# Altium footprint library PcbLib.PcbLib: 22 footprints (part 1 of 2)
Each footprint in its own frame and in the unit in brackets; x right, y up, seen from the top. Pads: shape width x height; smd on the part's side, far side on the other; paste and mask are expansions set on the pad; w line width, h text height; cw(c..) or ccw(c..) is an arc to the next point about the centre after c.
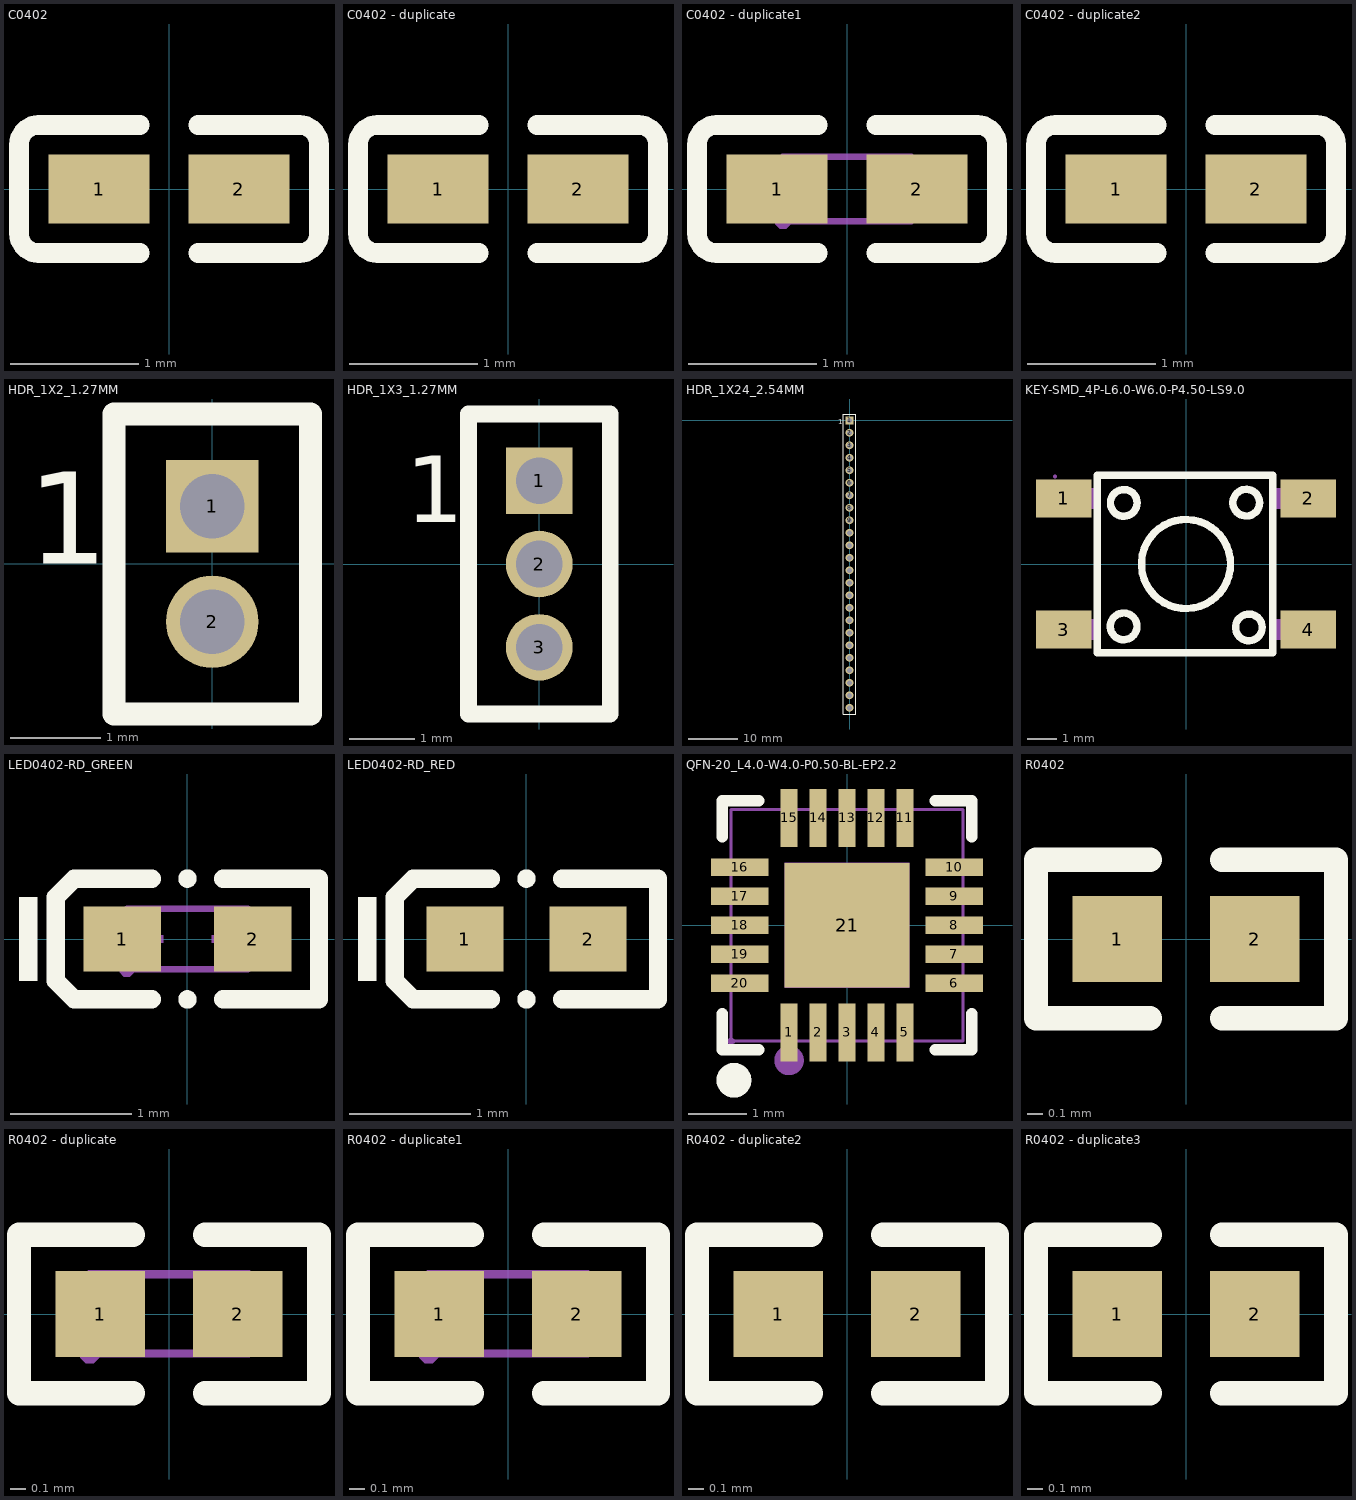
[diagram p0: the footprints below, top view; thin cyan lines are the x and y axes]

## C0402 [mm]
pads (2):
  rect 0.79x0.54 smd paste-100 mask+0.051: 1(-0.545,0) 2(0.545,0)
Top Overlay:
  lines w0.152: -0.226,-0.499 -1.016,-0.499 cw(c-1.016,-0.346) -1.169,-0.346 -1.169,0.346 cw(c-1.016,0.346) -1.016,0.499 -0.226,0.499 ; 0.226,-0.499 1.016,-0.499 ccw(c1.016,-0.346) 1.169,-0.346 1.169,0.346 ccw(c1.016,0.346) 1.016,0.499 0.226,0.499
Top Paste:
  region: 0.78,0.225 0.78,-0.225 0.73,-0.275 0.25,-0.275 0.18,-0.225 0.18,0.225 0.25,0.275 0.73,0.275
  region: -0.18,0.225 -0.18,-0.225 -0.25,-0.275 -0.73,-0.275 -0.78,-0.225 -0.78,0.225 -0.73,0.275 -0.25,0.275

## C0402 - duplicate [mm]
pads (2):
  rect 0.79x0.54 smd paste-100 mask+0.051: 1(-0.545,0) 2(0.545,0)
Top Overlay:
  lines w0.152: -0.226,-0.499 -1.016,-0.499 cw(c-1.016,-0.346) -1.169,-0.346 -1.169,0.346 cw(c-1.016,0.346) -1.016,0.499 -0.226,0.499 ; 0.226,-0.499 1.016,-0.499 ccw(c1.016,-0.346) 1.169,-0.346 1.169,0.346 ccw(c1.016,0.346) 1.016,0.499 0.226,0.499
Top Paste:
  region: 0.78,0.225 0.78,-0.225 0.73,-0.275 0.25,-0.275 0.18,-0.225 0.18,0.225 0.25,0.275 0.73,0.275
  region: -0.18,0.225 -0.18,-0.225 -0.25,-0.275 -0.73,-0.275 -0.78,-0.225 -0.78,0.225 -0.73,0.275 -0.25,0.275

## C0402 - duplicate1 [mm]
pads (2):
  rect 0.79x0.54 smd paste-100 mask+0.051: 1(-0.545,0) 2(0.545,0)
Top Overlay:
  lines w0.152: -0.226,-0.499 -1.016,-0.499 cw(c-1.016,-0.346) -1.169,-0.346 -1.169,0.346 cw(c-1.016,0.346) -1.016,0.499 -0.226,0.499 ; 0.226,-0.499 1.016,-0.499 ccw(c1.016,-0.346) 1.169,-0.346 1.169,0.346 ccw(c1.016,0.346) 1.016,0.499 0.226,0.499
Top Paste:
  region: 0.78,0.225 0.78,-0.225 0.73,-0.275 0.25,-0.275 0.18,-0.225 0.18,0.225 0.25,0.275 0.73,0.275
  region: -0.18,0.225 -0.18,-0.225 -0.25,-0.275 -0.73,-0.275 -0.78,-0.225 -0.78,0.225 -0.73,0.275 -0.25,0.275
Mechanical 15:
  region: 0.5,-0.25 0.5,0.25 0.25,0.25 0.25,-0.25
  region: -0.5,-0.25 -0.5,0.25 -0.25,0.25 -0.25,-0.25
  region: -0.44,-0.25 -0.44,-0.275 -0.475,-0.31 -0.525,-0.31 -0.56,-0.275 -0.56,-0.25 -0.56,-0.225 -0.525,-0.19 -0.475,-0.19 -0.44,-0.225
  lines w0.051: -0.5,-0.25 0.5,-0.25 0.5,0.25 -0.5,0.25 -0.5,-0.25

## C0402 - duplicate2 [mm]
pads (2):
  rect 0.79x0.54 smd paste-100 mask+0.051: 1(-0.545,0) 2(0.545,0)
Top Overlay:
  lines w0.152: -0.226,-0.499 -1.016,-0.499 cw(c-1.016,-0.346) -1.169,-0.346 -1.169,0.346 cw(c-1.016,0.346) -1.016,0.499 -0.226,0.499 ; 0.226,-0.499 1.016,-0.499 ccw(c1.016,-0.346) 1.169,-0.346 1.169,0.346 ccw(c1.016,0.346) 1.016,0.499 0.226,0.499
Top Paste:
  region: 0.78,0.225 0.78,-0.225 0.73,-0.275 0.25,-0.275 0.18,-0.225 0.18,0.225 0.25,0.275 0.73,0.275
  region: -0.18,0.225 -0.18,-0.225 -0.25,-0.275 -0.73,-0.275 -0.78,-0.225 -0.78,0.225 -0.73,0.275 -0.25,0.275

## HDR_1X2_1.27MM [mil]
pads (2):
  rect 40x40 hole 28: 1(0,25)
  round 40 hole 28: 2(0,-25)
Top Overlay:
  lines w10: -42.5,-65 -42.5,65 42.5,65 42.5,-65 -42.5,-65
  text "1" at -80,0 h40
3D body "FTS-102-01-F-S.stp": height 154.5, standoff -89.5, extent -42.5,-50 42.5,50

## HDR_1X3_1.27MM [mil]
pads (3):
  rect 40x40 hole 28: 1(0,50)
  round 40 hole 28: 2(0,0) 3(0,-50)
Top Overlay:
  lines w10: -42.5,-90 42.5,-90 42.5,90 -42.5,90 -42.5,-90
  text "1" at -80,25 h40
3D body "FTS-103-01-F-S.stp": height 154.5, standoff -89.5, extent -42.5,-75 42.5,75

## HDR_1X24_2.54MM [mil]
pads (24):
  rect 64x64 hole 40: 1(0,0)
  round 64 hole 40: 2(0,-100) 3(0,-200) 4(0,-300) 5(0,-400) 6(0,-500) 7(0,-600) 8(0,-700) 9(0,-800) 10(0,-900) 11(0,-1000) 12(0,-1100) 13(0,-1200) 14(0,-1300) 15(0,-1400) 16(0,-1500) 17(0,-1600) 18(0,-1700) 19(0,-1800) 20(0,-1900) 21(0,-2000) 22(0,-2100) 23(0,-2200) 24(0,-2300)
Top Overlay:
  lines w10: -50,-2350 50,-2350 50,50 -50,50 -50,-2350
  text "1" at -90,-30 h40
3D body "022284245.stp": height 385.5, standoff -119.5, extent -49,-2350 49,50

## KEY-SMD_4P-L6.0-W6.0-P4.50-LS9.0 [mm]
pads (4):
  rect 1.9x1.3 smd: 1(-4.2,2.25) 2(4.2,2.25) 3(-4.2,-2.25) 4(4.2,-2.25)
Top Overlay:
  circle w0.254: c0,0 r1.529
  circle w0.254: c2.068,2.105 r0.458
  circle w0.254: c2.159,-2.177 r0.458
  circle w0.254: c-2.141,-2.141 r0.458
  circle w0.254: c-2.136,2.098 r0.458
  lines w0.254: -3.051,-3.051 -3.051,3.051 2.977,3.051 2.977,-3.051 -3.051,-3.051
Mechanical 15:
  region: -4.44,3 -4.44,2.975 -4.475,2.94 -4.525,2.94 -4.56,2.975 -4.56,3 -4.56,3.025 -4.525,3.06 -4.475,3.06 -4.44,3.025
  region: 2.99,-2.6 2.99,-1.9 3.71,-1.9 3.71,-2.6
  region: 3.7,-2.6 3.7,-1.9 4.5,-1.9 4.5,-2.6
  region: -3.71,-2.6 -3.71,-1.9 -2.99,-1.9 -2.99,-2.6
  region: -4.5,-2.6 -4.5,-1.9 -3.7,-1.9 -3.7,-2.6
  region: 2.99,1.9 2.99,2.6 3.71,2.6 3.71,1.9
  region: 3.7,1.9 3.7,2.6 4.5,2.6 4.5,1.9
  region: -3.71,1.9 -3.71,2.6 -2.99,2.6 -2.99,1.9
  region: -4.5,1.9 -4.5,2.6 -3.7,2.6 -3.7,1.9
  lines w0.051: -3,-3 3,-3 3,3 -3,3 -3,-3
3D body "tactile switch.STEP": height 4.81, standoff -0.19, extent -4.5,-3 4.5,3

## LED0402-RD_GREEN [mm]
pads (2):
  rect 0.636x0.54 smd paste-100 mask+0.051: 1(-0.538,0) 2(0.538,0)
Top Overlay:
  circle w0.076: c0,0.499 r0.038
  circle w0.076: c0,-0.499 r0.038
  region: -1.237,-0.346 -1.237,0.346 -1.39,0.346 -1.39,-0.346
  lines w0.152: -0.296,-0.499 -0.933,-0.499 -1.085,-0.346 -1.085,0.346 -0.933,0.499 -0.296,0.499 ; 0.296,-0.499 1.085,-0.499 1.085,0.499 0.296,0.499
Top Paste:
  region: -0.198,-0.23 -0.198,0.23 -0.238,0.27 -0.816,0.27 -0.856,0.23 -0.856,-0.23 -0.816,-0.27 -0.238,-0.27
  region: 0.198,-0.23 0.198,0.23 0.238,0.27 0.816,0.27 0.856,0.23 0.856,-0.23 0.816,-0.27 0.238,-0.27
Mechanical 6:
  region: 0.35,-0.2 0.35,0.2 0.29,0.2 0.29,-0.2
  region: 0.44,-0.03 0.44,0.03 0.2,0.03 0.2,-0.03
  region: -0.44,-0.03 -0.44,0.03 -0.2,0.03 -0.2,-0.03
Mechanical 15:
  region: 0.5,-0.25 0.5,0.25 0.3,0.25 0.3,-0.25
  region: -0.5,-0.25 -0.5,0.25 -0.3,0.25 -0.3,-0.25
  region: -0.44,-0.25 -0.44,-0.275 -0.475,-0.31 -0.525,-0.31 -0.56,-0.275 -0.56,-0.25 -0.56,-0.225 -0.525,-0.19 -0.475,-0.19 -0.44,-0.225
  lines w0.051: -0.5,-0.25 0.5,-0.25 0.5,0.25 -0.5,0.25 -0.5,-0.25

## LED0402-RD_RED [mm]
pads (2):
  rect 0.636x0.54 smd paste-100 mask+0.051: 1(-0.508,0) 2(0.508,0)
Top Overlay:
  circle w0.076: c0,0.499 r0.038
  circle w0.076: c0,-0.499 r0.038
  region: -1.237,-0.346 -1.237,0.346 -1.39,0.346 -1.39,-0.346
  lines w0.152: -0.296,-0.499 -0.933,-0.499 -1.085,-0.346 -1.085,0.346 -0.933,0.499 -0.296,0.499 ; 0.296,-0.499 1.085,-0.499 1.085,0.499 0.296,0.499
Top Paste:
  region: -0.168,-0.23 -0.168,0.23 -0.208,0.27 -0.786,0.27 -0.826,0.23 -0.826,-0.23 -0.786,-0.27 -0.208,-0.27
  region: 0.168,-0.23 0.168,0.23 0.208,0.27 0.786,0.27 0.826,0.23 0.826,-0.23 0.786,-0.27 0.208,-0.27
Mechanical 15:
  region: 0.35,-0.2 0.35,0.2 0.29,0.2 0.29,-0.2
  region: 0.44,-0.03 0.44,0.03 0.2,0.03 0.2,-0.03
  region: -0.44,-0.03 -0.44,0.03 -0.2,0.03 -0.2,-0.03

## QFN-20_L4.0-W4.0-P0.50-BL-EP2.2 [mm]
pads (21):
  rect 0.3x1 smd paste-100 mask+0.051: 1(-1,-1.85) 2(-0.5,-1.85) 3(0,-1.85) 4(0.5,-1.85) 5(1,-1.85) 11(1,1.85) 12(0.5,1.85) 13(0,1.85) 14(-0.5,1.85) 15(-1,1.85)
  rect 1x0.3 smd paste-100 mask+0.051: 6(1.85,-1) 7(1.85,-0.5) 8(1.85,0) 9(1.85,0.5) 10(1.85,1) 16(-1.85,1) 17(-1.85,0.5) 18(-1.85,0) 19(-1.85,-0.5) 20(-1.85,-1)
  rect 2.15x2.15 smd paste-100 mask+0.051: 21(0,0)
Top Overlay:
  lines w0.2: -2.15,-1.525 -2.15,-2.15 -1.525,-2.15 ; -2.15,1.525 -2.15,2.15 -1.525,2.15 ; 1.525,-2.15 2.15,-2.15 2.15,-1.525 ; 1.525,2.15 2.15,2.15 2.15,1.525
  lines w0.3: -1.951,-2.525 ccw(c-1.949,-2.675) -1.949,-2.825 ccw(c-1.949,-2.675) -1.948,-2.525
Top Paste:
  region: -0.35,-2.35 -0.35,-1.35 -0.65,-1.35 -0.65,-2.35
  region: -0.15,-1.35 -0.15,-2.35 0.15,-2.35 0.15,-1.35
  region: 0.35,-1.35 0.35,-2.35 0.65,-2.35 0.65,-1.35
  region: 0.85,-1.35 0.85,-2.35 1.15,-2.35 1.15,-1.35
  region: -0.85,-2.35 -0.85,-1.35 -1.15,-1.35 -1.15,-2.35
  region: 1.35,-0.85 1.35,-1.15 2.35,-1.15 2.35,-0.85
  region: -2.35,-0.85 -2.35,-1.15 -1.35,-1.15 -1.35,-0.85
  region: 1.35,-0.35 1.35,-0.65 2.35,-0.65 2.35,-0.35
  region: -2.35,-0.35 -2.35,-0.65 -1.35,-0.65 -1.35,-0.35
  region: 1.35,0.15 1.35,-0.15 2.35,-0.15 2.35,0.15
  region: -2.35,0.15 -2.35,-0.15 -1.35,-0.15 -1.35,0.15
  region: 1.35,0.65 1.35,0.35 2.35,0.35 2.35,0.65
  region: -2.35,0.65 -2.35,0.35 -1.35,0.35 -1.35,0.65
  region: 0.88,-0.88 0.88,0.88 -0.88,0.88 -0.88,-0.88
  region: 1.35,1.15 1.35,0.85 2.35,0.85 2.35,1.15
  region: -1.35,0.85 -1.35,1.15 -2.35,1.15 -2.35,0.85
  region: 0.15,1.35 0.15,2.35 -0.15,2.35 -0.15,1.35
  region: -0.65,2.35 -0.65,1.35 -0.35,1.35 -0.35,2.35
  region: 0.65,1.35 0.65,2.35 0.35,2.35 0.35,1.35
  region: -1.15,2.35 -1.15,1.35 -0.85,1.35 -0.85,2.35
  region: 0.85,2.35 0.85,1.35 1.15,1.35 1.15,2.35
Mechanical 6:
  circle w0.254: c-1,-2.332 r0.127
Mechanical 15:
  region: -0.885,-2 -1.115,-2 -1.115,-1.45 -0.885,-1.45
  region: -0.385,-2 -0.615,-2 -0.615,-1.45 -0.385,-1.45
  region: 0.115,-2 -0.115,-2 -0.115,-1.45 0.115,-1.45
  region: 0.615,-2 0.385,-2 0.385,-1.45 0.615,-1.45
  region: 1.115,-2 0.885,-2 0.885,-1.45 1.115,-1.45
  region: 2,-0.885 2,-1.115 1.45,-1.115 1.45,-0.885
  region: 2,-0.385 2,-0.615 1.45,-0.615 1.45,-0.385
  region: 2,0.115 2,-0.115 1.45,-0.115 1.45,0.115
  region: 2,0.615 2,0.385 1.45,0.385 1.45,0.615
  region: 2,1.115 2,0.885 1.45,0.885 1.45,1.115
  region: 1.115,1.45 0.885,1.45 0.885,2 1.115,2
  region: 0.615,1.45 0.385,1.45 0.385,2 0.615,2
  region: 0.115,1.45 -0.115,1.45 -0.115,2 0.115,2
  region: -0.385,1.45 -0.615,1.45 -0.615,2 -0.385,2
  region: -0.885,1.45 -1.115,1.45 -1.115,2 -0.885,2
  region: -1.45,1.115 -1.45,0.885 -2,0.885 -2,1.115
  region: -1.45,0.615 -1.45,0.385 -2,0.385 -2,0.615
  region: -1.45,0.115 -1.45,-0.115 -2,-0.115 -2,0.115
  region: -1.45,-0.385 -1.45,-0.615 -2,-0.615 -2,-0.385
  region: -1.45,-0.885 -1.45,-1.115 -2,-1.115 -2,-0.885
  region: -1.075,-1.075 -1.075,1.075 1.075,1.075 1.075,-1.075
  region: -1.94,-2 -1.94,-2.025 -1.975,-2.06 -2.025,-2.06 -2.06,-2.025 -2.06,-2 -2.06,-1.975 -2.025,-1.94 -1.975,-1.94 -1.94,-1.975
  lines w0.051: -2,-2 2,-2 2,2 -2,2 -2,-2
3D body "FT231XQ-R.STEP": height 0.76, standoff -0.04, extent -2,-2 2,2

## R0402 [mm]
pads (2):
  rect 0.566x0.54 smd paste-100 mask+0.051: 1(-0.433,0) 2(0.433,0)
Top Overlay:
  lines w0.152: -0.226,-0.499 -0.944,-0.499 -0.944,0.499 -0.226,0.499 ; 0.226,-0.499 0.944,-0.499 0.944,0.499 0.226,0.499
Top Paste:
  region: 0.135,-0.23 0.135,0.23 0.175,0.27 0.676,0.27 0.716,0.23 0.716,-0.23 0.676,-0.27 0.175,-0.27
  region: -0.135,-0.23 -0.135,0.23 -0.175,0.27 -0.676,0.27 -0.716,0.23 -0.716,-0.23 -0.676,-0.27 -0.175,-0.27

## R0402 - duplicate [mm]
pads (2):
  rect 0.566x0.54 smd paste-100 mask+0.051: 1(-0.433,0) 2(0.433,0)
Top Overlay:
  lines w0.152: -0.226,-0.499 -0.944,-0.499 -0.944,0.499 -0.226,0.499 ; 0.226,-0.499 0.944,-0.499 0.944,0.499 0.226,0.499
Top Paste:
  region: 0.135,-0.23 0.135,0.23 0.175,0.27 0.676,0.27 0.716,0.23 0.716,-0.23 0.676,-0.27 0.175,-0.27
  region: -0.135,-0.23 -0.135,0.23 -0.175,0.27 -0.676,0.27 -0.716,0.23 -0.716,-0.23 -0.676,-0.27 -0.175,-0.27
Mechanical 15:
  region: -0.44,-0.25 -0.44,-0.275 -0.475,-0.31 -0.525,-0.31 -0.56,-0.275 -0.56,-0.25 -0.56,-0.225 -0.525,-0.19 -0.475,-0.19 -0.44,-0.225
  region: 0.251,-0.25 0.251,0.25 0.501,0.25 0.501,-0.25
  region: -0.249,0.25 -0.249,-0.25 -0.499,-0.25 -0.499,0.25
  lines w0.051: -0.5,-0.25 -0.5,0.25 0.5,0.25 0.5,-0.25 -0.5,-0.25

## R0402 - duplicate1 [mm]
pads (2):
  rect 0.566x0.54 smd paste-100 mask+0.051: 1(-0.433,0) 2(0.433,0)
Top Overlay:
  lines w0.152: -0.226,-0.499 -0.944,-0.499 -0.944,0.499 -0.226,0.499 ; 0.226,-0.499 0.944,-0.499 0.944,0.499 0.226,0.499
Top Paste:
  region: 0.135,-0.23 0.135,0.23 0.175,0.27 0.676,0.27 0.716,0.23 0.716,-0.23 0.676,-0.27 0.175,-0.27
  region: -0.135,-0.23 -0.135,0.23 -0.175,0.27 -0.676,0.27 -0.716,0.23 -0.716,-0.23 -0.676,-0.27 -0.175,-0.27
Mechanical 15:
  region: -0.44,-0.25 -0.44,-0.275 -0.475,-0.31 -0.525,-0.31 -0.56,-0.275 -0.56,-0.25 -0.56,-0.225 -0.525,-0.19 -0.475,-0.19 -0.44,-0.225
  region: 0.251,-0.25 0.251,0.25 0.501,0.25 0.501,-0.25
  region: -0.249,0.25 -0.249,-0.25 -0.499,-0.25 -0.499,0.25
  lines w0.051: -0.5,-0.25 -0.5,0.25 0.5,0.25 0.5,-0.25 -0.5,-0.25

## R0402 - duplicate2 [mm]
pads (2):
  rect 0.566x0.54 smd paste-100 mask+0.051: 1(-0.433,0) 2(0.433,0)
Top Overlay:
  lines w0.152: -0.226,-0.499 -0.944,-0.499 -0.944,0.499 -0.226,0.499 ; 0.226,-0.499 0.944,-0.499 0.944,0.499 0.226,0.499
Top Paste:
  region: -0.135,-0.23 -0.135,0.23 -0.175,0.27 -0.676,0.27 -0.716,0.23 -0.716,-0.23 -0.676,-0.27 -0.175,-0.27
  region: 0.135,-0.23 0.135,0.23 0.175,0.27 0.676,0.27 0.716,0.23 0.716,-0.23 0.676,-0.27 0.175,-0.27

## R0402 - duplicate3 [mm]
pads (2):
  rect 0.566x0.54 smd paste-100 mask+0.051: 1(-0.433,0) 2(0.433,0)
Top Overlay:
  lines w0.152: -0.226,-0.499 -0.944,-0.499 -0.944,0.499 -0.226,0.499 ; 0.226,-0.499 0.944,-0.499 0.944,0.499 0.226,0.499
Top Paste:
  region: -0.135,-0.23 -0.135,0.23 -0.175,0.27 -0.676,0.27 -0.716,0.23 -0.716,-0.23 -0.676,-0.27 -0.175,-0.27
  region: 0.135,-0.23 0.135,0.23 0.175,0.27 0.676,0.27 0.716,0.23 0.716,-0.23 0.676,-0.27 0.175,-0.27